# Altium schematic symbol library xmos_common.SchLib: 40 symbols
Pins are listed as number, name and electrical type; pins without a type are passive.

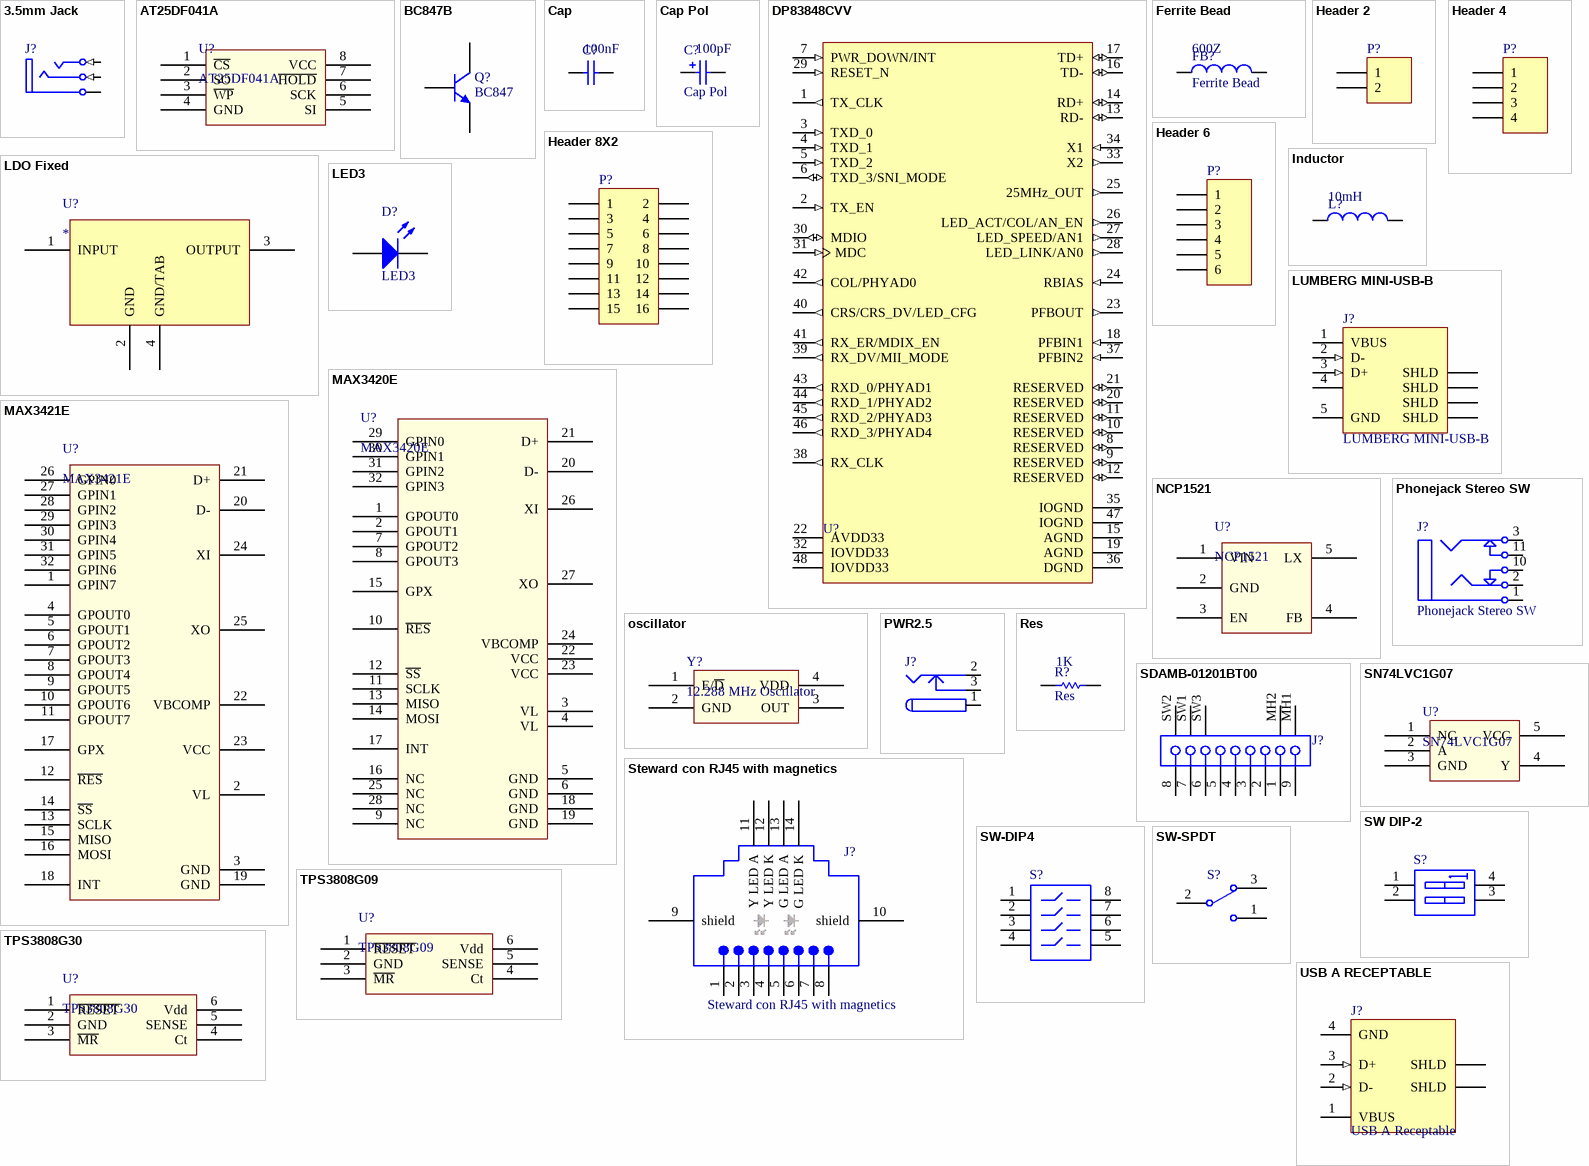
[diagram p0: symbols 3.5mm Jack to USB A RECEPTABLE]

## 3.5mm Jack
designator J?
Stereo Jack 2.5mm, Right Angle, Surface Mount, 9mm Wide; 3-Position; Non-thread; PCB_Layout: Complies with manufacturer's recommendation.; Published: 21-Sep-2007; DatasheetVersion: Jul-2005; PackageVersion: Jul-2005; PackageReference: STX2550-3S; Publisher: Altium Limited; PackageDescription: Audio Jack 2.5mm, SM, 3 Position, Right Angle, Body 12 x 9 x 4 mm (LxWxH); ComponentLink1Description: Manufacturer Link; ComponentLink1URL: http://www.kycon.com/; ComponentLink2Description: Datasheet; ComponentLink2URL: http://www.kycon.com/Pub_Eng_Draw/STX-2550-3N.pdf
footprint 3.5mm Audio Jack 1
pins: 1 S (power) "Sleeve (Ground)", 2 T (in) "Tip/Left Channel/(+)", 3 R (in) "Ring/Right Channel/(-)"

## AT25DF041A
designator U?
4Mbit SPI Flash
footprint SOIC150-8_M (8-Pin Plastic Narrow Body Small Outline Integrated Circuit 1.27 mm Pitch, IPC Low Density)
pins: 1 ~{CS}, 2 SO, 3 ~{WP}, 4 GND, 5 SI, 6 SCK, 7 ~{HOLD}, 8 VCC

## BC847B
designator Q?, comment BC847
NPN General-purpose Transistor; Published: 17-Sep-2003; LatestRevisionDate: 12-Dec-2006; LatestRevisionNote: IPC-7351 Footprint Added.; DatasheetVersion: 4-Feb-2002; PackageVersion: May-1999; PackageReference: SOT23; Publisher: Altium Limited; PackageDescription: 3-Pin SOT-23 Package 0.95 mm Pitch, 2.3 mm Lead Span; ComponentLink1Description: Manufacturer Link; ComponentLink1URL: http://www.semiconductors.philips.com/; ComponentLink2Description: Datasheet; ComponentLink2URL: http://www.semiconductors.philips.com/acrobat/datasheets/BC846_BC847_BC848_5.pdf
footprint SOT23-3_M (SOT23, 3-Leads, Body 2.9x1.3mm, Pitch 0.95mm, Lead Span 2.3mm, IPC Low Density)
pins: 1 B, 2 E, 3 C

## Cap
designator C?  value 100nF  (hidden comment: Cap)
Capacitor; Published: 8-Jun-2000; LatestRevisionDate: 17-Jul-2002; LatestRevisionNote: Re-released for DXP Platform.; PackageReference: RAD-0.3; Publisher: Altium Limited
footprint 1608[0603]_CAP (Chip Resistor / Capacitor; Body 1.6 x 0.8 mm (LxW typ) Handsoldering optimized)
footprint 2012[0805]_CAP (Chip Resistor / Capacitor; Body 2.0 x 1.3 mm (LxW typ) Handsoldering optimized)
footprint 1005[0402]_CAP (Chip Capacitor, Body 1.0x0.5mm, IPC Medium Density)
pins: 1, 2

## Cap Pol
designator C?  value 100pF
Polarized Capacitor (Surface Mount); Published: 8-Jun-2000; LatestRevisionDate: 29-May-2009; LatestRevisionNote: IPC-7351 Footprint Added.; PackageReference: C0805; Publisher: Altium Limited; PackageDescription: Chip Capacitor
footprint PANASONIC_CAP_B (Panasonic SMD Capacitor Size B, Low Density)
footprint PANASONIC_CAP_D (Panasonic SMD Capacitor Size D, Low Density)
pins: 1, 2
1 alternate drawing of the same symbol

## DP83848CVV
designator U?
PHYTER® Commercial Temperature Single Port 10/100 Mb/s Ethernet Physical Layer Transceiver, 48-pin LQFP; PartNumber: DP83848CVV; Manufacturer: National Semiconductor; PackageTopMarking: NSUZXYTT*DP83848VV*VBC; PowerWise: N; CompType: Interface IC; Published: 4-Dec-2008; DatasheetVersion: May-2008; PackageVersion: revE, May-2007; PackageReference: VBH48A; Publisher: Altium Limited; PackageDescription: LQFP, 7 x 7 x 1.4mm, 48 Lead, 0.5mm Pitch; Supplier 1: Farnell; Supplier Part Number 1: 1286816; Supplier 2: Farnell; Supplier Part Number 2: 1528379; RoHS: Y; PinCount: 48; ComponentLink1Description: DP83848C Datasheet; ComponentLink1URL: http://www.national.com/ds/DP/DP83848C.pdf; ComponentLink2Description: DP83848C Web Page; ComponentLink2URL: http://www.national.com/pf/DP/DP83848C.html; ComponentLink3Description: VBH48A Package Page; ComponentLink3URL: http://www.national.com/packaging/folders/vbh48a.html
footprint TSQFP50P900X900-48M (Thin QFP, 48-Leads, Body 7x7mm, Pitch 0.5mm, IPC Low Density)
pins: 1 TX_CLK (out), 2 TX_EN (in), 3 TXD_0 (in), 4 TXD_1 (in), 5 TXD_2 (in), 6 TXD_3/SNI_MODE (io), 7 PWR_DOWN/INT (in), 8 RESERVED (io), 9 RESERVED (io), 10 RESERVED (io), 11 RESERVED (io), 12 RESERVED (io), 13 RD- (io), 14 RD+ (io), 15 AGND (power), 16 TD- (io), 17 TD+ (io), 18 PFBIN1 (in), 19 AGND (power), 20 RESERVED (io), 21 RESERVED (io), 22 AVDD33 (power), 23 PFBOUT (out), 24 RBIAS (in), 25 25MHz_OUT (out), 26 LED_ACT/COL/AN_EN (out), 27 LED_SPEED/AN1 (out), 28 LED_LINK/AN0 (out), 29 RESET_N (in), 30 MDIO (io), 31 MDC (in), 32 IOVDD33 (power), 33 X2 (out), 34 X1 (in), 35 IOGND (power), 36 DGND (power), 37 PFBIN2 (in), 38 RX_CLK (out), 39 RX_DV/MII_MODE (out), 40 CRS/CRS_DV/LED_CFG (out), 41 RX_ER/MDIX_EN (out), 42 COL/PHYAD0 (out), 43 RXD_0/PHYAD1 (out), 44 RXD_1/PHYAD2 (out), 45 RXD_2/PHYAD3 (out), 46 RXD_3/PHYAD4 (out), 47 IOGND (power), 48 IOVDD33 (power)

## Ferrite Bead
designator FB?  value 600Z
Code_IEC: 1005; Published: 8-Jun-2000; LatestRevisionDate: 29-May-2009; LatestRevisionNote: IPC-7351 Footprint Added.; PackageReference: 0402-A; Publisher: Altium Limited; PackageDescription: Chip Inductor; Code_JEITA: 0402
footprint 1608[0603]_FB (Chip Resistor / Capacitor; Body 1.6 x 0.8 mm (LxW typ) Handsoldering optimized)
footprint 1005[0402]_CAP (Chip Capacitor, Body 1.0x0.5mm, IPC Medium Density)
pins: 1, 2

## Header 2
designator P?
Header, 2-Pin; LatestRevisionDate: 17-Jul-2002; LatestRevisionNote: Re-released for DXP Platform.; Publisher: Altium Limited
footprint HDR1X2 (Connector; Header; 2 Position)
pins: 1, 2

## Header 4
designator P?
Header, 4-Pin; LatestRevisionDate: 17-Jul-2002; LatestRevisionNote: Re-released for DXP Platform.; Publisher: Altium Limited
footprint HDR1X4 (Connector; Header; 4 Position)
pins: 1, 2, 3, 4

## Header 6
designator P?
Header, 6-Pin; LatestRevisionDate: 17-Jul-2002; LatestRevisionNote: Re-released for DXP Platform.; Publisher: Altium Limited
footprint HDR1X6 (Connector; Header; 6 Position)
pins: 1, 2, 3, 4, 5, 6

## Header 8X2
designator P?
Header, 8-Pin, Dual row; LatestRevisionDate: 17-Jul-2002; LatestRevisionNote: Re-released for DXP Platform.; Publisher: Altium Limited
footprint HDR2X8 (Connector; Header; 8x2 Position)
pins: 1, 2, 3, 4, 5, 6, 7, 8, 9, 10, 11, 12, 13, 14, 15, 16

## Inductor
designator L?  value 10mH
Inductor; Code_IEC: 1005; Published: 8-Jun-2000; LatestRevisionDate: 29-May-2009; LatestRevisionNote: IPC-7351 Footprint Added.; PackageReference: 0402-A; Publisher: Altium Limited; PackageDescription: Chip Inductor; Code_JEITA: 0402
footprint MURATA_LQH44P (4x4mm Inductor)
footprint INDC3225N (Chip Inductor, Body 3.2x2.5mm, IPC Medium Density)
footprint BOURNS_SRR4011 (5x5mm Inductor)
footprint BOURNS_SRR3011 (4x4mm Inductor)
pins: 1, 2

## LDO Fixed
designator U?
LDO Fixed
footprint SOT223-4N (SOT223, 4-Leads, Body 6.5x3.5mm, Pitch 2.3mm, Lead Span 7mm, IPC Medium Density)
pins: 1 INPUT, 2 GND, 3 OUTPUT, 4 GND/TAB

## LED3
designator D?
SMD LED 0805; Published: 8-Jun-2000; LatestRevisionDate: 17-Dec-2003; LatestRevisionNote: PCB Footprint replaced.; DatasheetVersion: 16-Apr-2002; PackageVersion: 16-Apr-2002; PackageReference: 3.5X2.8X1.9; Publisher: Altium Limited
footprint 2012[0805]_LED (Kingbright KPHCM-2012SGC-T)
footprint 3216[1206]_LED (AVAGO TECHNOLOGIES HSME-C150)
pins: 1 A, 2 K

## LUMBERG MINI-USB-B
designator J?
USB 2.0, Right Angle, SMT, A Type, Receptacle, 5 Position, Black; ContactMaterial: Phosphor Bronze; ContactPlating: Gold (30) over Nickel; PCB_Layout: Complies with manufacturer's recommendation.; DrillSize: Corresponds to nominal value.; PanelGround: Without; Published: 15-Jul-2004; DatasheetDocument: 15-Nov-2002; PackageDocument: 15-Nov-2002; PackageReference: 440478; Publisher: Altium Limited; HousingMaterial: Thermoplastic; ComponentLink1Description: Manufacturer Link; ComponentLink1URL: http://www.tycoelectronics.com/; ComponentLink2Description: Packaging Specification; ComponentLink2URL: http://ecommas.tycoelectronics.com/commerce/DocumentDelivery/DDEController?Action=showdoc&DocId=Customer+Drawing%7F440478%7FB%7Fpdf%7FEnglish%7FC_440478_B.pdf
footprint LUMBERG mini USB-B (Connector; USB2.0, Type B, SM; 5 Position; Right Angle)
pins: 1 VBUS (power) "Power", 2 D- (in) "-DATA", 3 D+ (in) "+DATA", 4 (power) "Ground", 5 GND "Shield", 6 SHLD "Shield", 7 SHLD "Shield", 8 SHLD "Shield", 9 SHLD "Shield"

## MAX3420E
designator U?
USB Controller SPI Interface
footprint TQFP80P900X900-32N (Thin QFP, 32-Leads, Body 7x7mm, Pitch 0.8mm, IPC Medium Density)
pins: 1 GPOUT0, 2 GPOUT1, 3 VL, 4 VL, 5 GND, 6 GND, 7 GPOUT2, 8 GPOUT3, 9 NC, 10 ~{RES}, 11 SCLK, 12 ~{SS}, 13 MISO, 14 MOSI, 15 GPX, 16 NC, 17 INT, 18 GND, 19 GND, 20 D-, 21 D+, 22 VCC, 23 VCC, 24 VBCOMP, 25 NC, 26 XI, 27 XO, 28 NC, 29 GPIN0, 30 GPIN1, 31 GPIN2, 32 GPIN3

## MAX3421E
designator U?
USB Host Controller SPI Interface
footprint TSQFP50P700X700-32N (Thin QFP, 32-Leads, Body 5x5mm, Pitch 0.5mm, IPC Medium Density)
pins: 1 GPIN7, 2 VL, 3 GND, 4 GPOUT0, 5 GPOUT1, 6 GPOUT2, 7 GPOUT3, 8 GPOUT4, 9 GPOUT5, 10 GPOUT6, 11 GPOUT7, 12 ~{RES}, 13 SCLK, 14 ~{SS}, 15 MISO, 16 MOSI, 17 GPX, 18 INT, 19 GND, 20 D-, 21 D+, 22 VBCOMP, 23 VCC, 24 XI, 25 XO, 26 GPIN0, 27 GPIN1, 28 GPIN2, 29 GPIN3, 30 GPIN4, 31 GPIN5, 32 GPIN6

## NCP1521
designator U?
Buck Converter
footprint SOT23-5 (SOT23, 5-Leads, Body 2.9x1.6mm, Pitch 0.95mm, Lead Span 2.8mm, IPC Medium Density)
pins: 1 VIN, 2 GND, 3 EN, 4 FB, 5 LX

## oscillator
designator Y?, comment 12.288 MHz Oscillator
Crystal Oscillator
footprint OSC_32_50 (Oscillator, 3,2mm x 5mm)
pins: 1 E/~{D}, 2 GND, 3 OUT, 4 VDD

## Phonejack Stereo SW
designator J?
Switchcraft 35RAPC4BHN2; Published: 5-Jan-2004; LatestRevisionDate: 17-Dec-2003; LatestRevisionNote: PCB Footprint replaced.; DatasheetDocument: 07-Mar-2000; Publisher: Altium Limited; ComponentLink1Description: Manufacturer Link; ComponentLink1URL: http://domino.kycon.com/internet/Products.html
footprint 35RAPC2BHN2 (Switchcraft Audio Jack)
pins: 1, 2, 3, 10, 11

## PWR2.5
designator J?
Low Voltage Power Supply Connector; Published: 17-Dec-2003; DatasheetDocument: 09-May-2002; Publisher: Altium Limited; ComponentLink1Description: Manufacturer Link; ComponentLink1URL: http://domino.kycon.com/internet/Products.html
footprint KLD-0202 (DC Power Jack, 2.5mm, KLD Series, PCB Mount)
pins: 1 (power), 1A (power), 1B (power), 2 (power), 2A (power), 2B (power), 3 (power), 3A (power), 3B (power)

## Res
designator R?  value 1K
Resistor; Published: 8-Jun-2000; LatestRevisionDate: 17-Jul-2002; LatestRevisionNote: Re-released for DXP Platform.; PackageReference: AXIAL-0.3; Publisher: Altium Limited
footprint 1608[0603]_RES (Chip Resistor / Capacitor; Body 1.6 x 0.8 mm (LxW typ) Handsoldering optimized)
footprint 2012[0805]_RES (Chip Resistor / Capacitor; Body 2.0 x 1.3 mm (LxW typ) Handsoldering optimized)
footprint 1005[0402]_RES (Chip Resistor, Body 1.1x0.5mm, IPC Medium Density)
pins: 1, 2

## SDAMB-01201BT00
designator J?
Secure Digital Card Connector, Type A without Cover; Surface Mount; 9-Position, 1u" Au Plating; PCB_Layout: Complies with manufacturer's recommendation.; Note: SD and MMC full compatible; Published: 21-Sep-2007; DatasheetVersion: rev.I, 2006; PackageVersion: 2006; PackageReference: SDAMB-012; Publisher: Altium Limited; PackageDescription: SD Card without Cover, SM, 9 Position, Right Angle, Body 23.3 x 27.4 x 3.4 mm (LxWxH); ComponentLink1Description: Manufacturer Link; ComponentLink1URL: http://www.kingfont.com/; ComponentLink2Description: Datasheet; ComponentLink2URL: http://php2.twinner.com.tw/files/kingfont/SDAMB-012XXBXXX-1C.pdf
footprint SDCARD-SDAMB-012 (Connector; SD Card Type A, SM, 9 Position, Right Angle, Pitch 2.5 mm, Body 23.3 x 27.4 x 3.4 mm (LxWxH))
pins: 1 "CD/DAT3", 2 "CMD/D1", 3 "VSS1", 4 "VDD", 5 "CLK/SCLK", 6 "VSS2", 7 "DAT0", 8 "DAT1", 9 "DAT3", MH1 "Tab", MH2 "Tab", SW1, SW2 "Write Protect", SW3 "Card Detect Indication"

## SN74LVC1G07
designator U?
Buffer (open drain output); Manufacturer: TEXAS INSTRUMENTS; Vendor: Farnell; ProductCode: SN74LVC1G07DBV; VendorCode: 1102969; Price: 0,47
footprint SOT23-5 (SOT23, 5-Leads, Body 2.9x1.6mm, Pitch 0.95mm, Lead Span 2.8mm, IPC Medium Density)
pins: 1 NC, 2 A, 3 GND, 4 Y, 5 VCC

## Steward con RJ45 with magnetics
designator J?
Right Angle,RJ45-Keyed, Flange Mount PCB Jack; Ports: 1; Positions/Loaded: Port1 - 8 Keyed/8; PerformanceCategory: 3; PCB_Mounting: Thru-Hole; ComponentAvailability: Obsolete; DrillSize: Nominal, Rounded to nearest 0.05mm; PCB_Layout: Complies with Manufacturer's Recommendation.; Published: 25-Jun-2002; DatasheetDocument: 18-Dec-2001; PackageDocument: 18-Dec-2001; PackageReference: 15-43-6233; Publisher: Altium Limited; ComponentLink1Description: Manufacturer Link; ComponentLink1URL: http://www.molex.com/; ComponentLink2Description: Datasheet; ComponentLink2URL: http://www.molex.com/cmc_upload/common_files/1212003_catalogmx41314.pdf; ComponentLink3Description: Iges Model; ComponentLink3URL: http://www.molex.com/pdm_docs/igs/15-43-6233_igs.zip
footprint Steward Con RJ45 (Connector; PCB Jack, Thru-Hole; 1-Port; Unshielded without Lightpipes; Right Angle)
pins: 1, 2, 3, 4, 5, 6, 7, 8, 9 shield, 10 shield, 11 Y LED A, 12 Y LED K, 13 G LED A, 14 G LED K

## SW DIP-2
designator S?
DIP Switch, 2 Position, SPST; Published: 24-Mar-1999; LatestRevisionDate: 17-Jul-2002; LatestRevisionNote: Re-released for DXP Platform.; PackageReference: DIP-4; Publisher: Altium Limited
footprint DIP-4 (DIP; 4 Leads; Row Spacing 7.62 mm; Pitch 2.54 mm)
simulation model dpsw2 (Spice Subcircuit)
pins: 1 A1, 2 A2, 3 B2, 4 B1

## SW-DIP4
designator S?
DIP Switch; Published: 24-Mar-1999; LatestRevisionDate: 17-Jul-2002; LatestRevisionNote: Re-released for DXP Platform.; PackageReference: DIP-8; Publisher: Altium Limited
footprint DIPSW4_SMD
pins: 1, 2, 3, 4, 5, 6, 7, 8

## SW-SPDT
designator S?
SPDT Subminiature Toggle Switch, Right Angle Mounting, Vertical Actuation; Published: 24-Mar-1999; LatestRevisionDate: 17-Dec-2003; LatestRevisionNote: Schematic revised, PCB Footprint replaced.; DatasheetVersion: 05-Dec-2000; PackageReference: TL36WW15050; Publisher: Altium Limited; PackageDescription: Switch; 4 Leads; ComponentLink1Description: Manufacturer Link; ComponentLink1URL: http://www.apem.com
footprint SIP-3
pins: 1, 2, 3

## TPS3808G09
designator U?
Power on Reset controller 0.9V
footprint SOT23-6 (SOT-23/SC-74A; 6 Leads; Body 3 x 3 mm, inc. leads (LxW max))
pins: 1 ~{RESET}, 2 GND, 3 ~{MR}, 4 Ct, 5 SENSE, 6 Vdd

## TPS3808G30
designator U?
Power on Reset controller 3.0V
footprint SOT23-6 (SOT-23/SC-74A; 6 Leads; Body 3 x 3 mm, inc. leads (LxW max))
pins: 1 ~{RESET}, 2 GND, 3 ~{MR}, 4 Ct, 5 SENSE, 6 Vdd

## USB A RECEPTABLE
designator J?, comment USB A Receptable
USB 2.0, Right Angle, SMT, A Type, Receptacle, 5 Position, Black; ContactMaterial: Phosphor Bronze; ContactPlating: Gold (30) over Nickel; PCB_Layout: Complies with manufacturer's recommendation.; DrillSize: Corresponds to nominal value.; PanelGround: Without; Published: 15-Jul-2004; DatasheetDocument: 15-Nov-2002; PackageDocument: 15-Nov-2002; PackageReference: 440478; Publisher: Altium Limited; HousingMaterial: Thermoplastic; ComponentLink1Description: Manufacturer Link; ComponentLink1URL: http://www.tycoelectronics.com/; ComponentLink2Description: Packaging Specification; ComponentLink2URL: http://ecommas.tycoelectronics.com/commerce/DocumentDelivery/DDEController?Action=showdoc&DocId=Customer+Drawing%7F440478%7FB%7Fpdf%7FEnglish%7FC_440478_B.pdf
footprint USB2.5-2H4B (Connector; USB1.1, Type A, Thru-Hole; 4 Position; Right Angle)
pins: 1 VBUS (power) "Power", 2 D- (in) "-DATA", 3 D+ (in) "+DATA", 4 GND (power) "Ground", 5 SHLD "Shield", 6 SHLD "Shield"

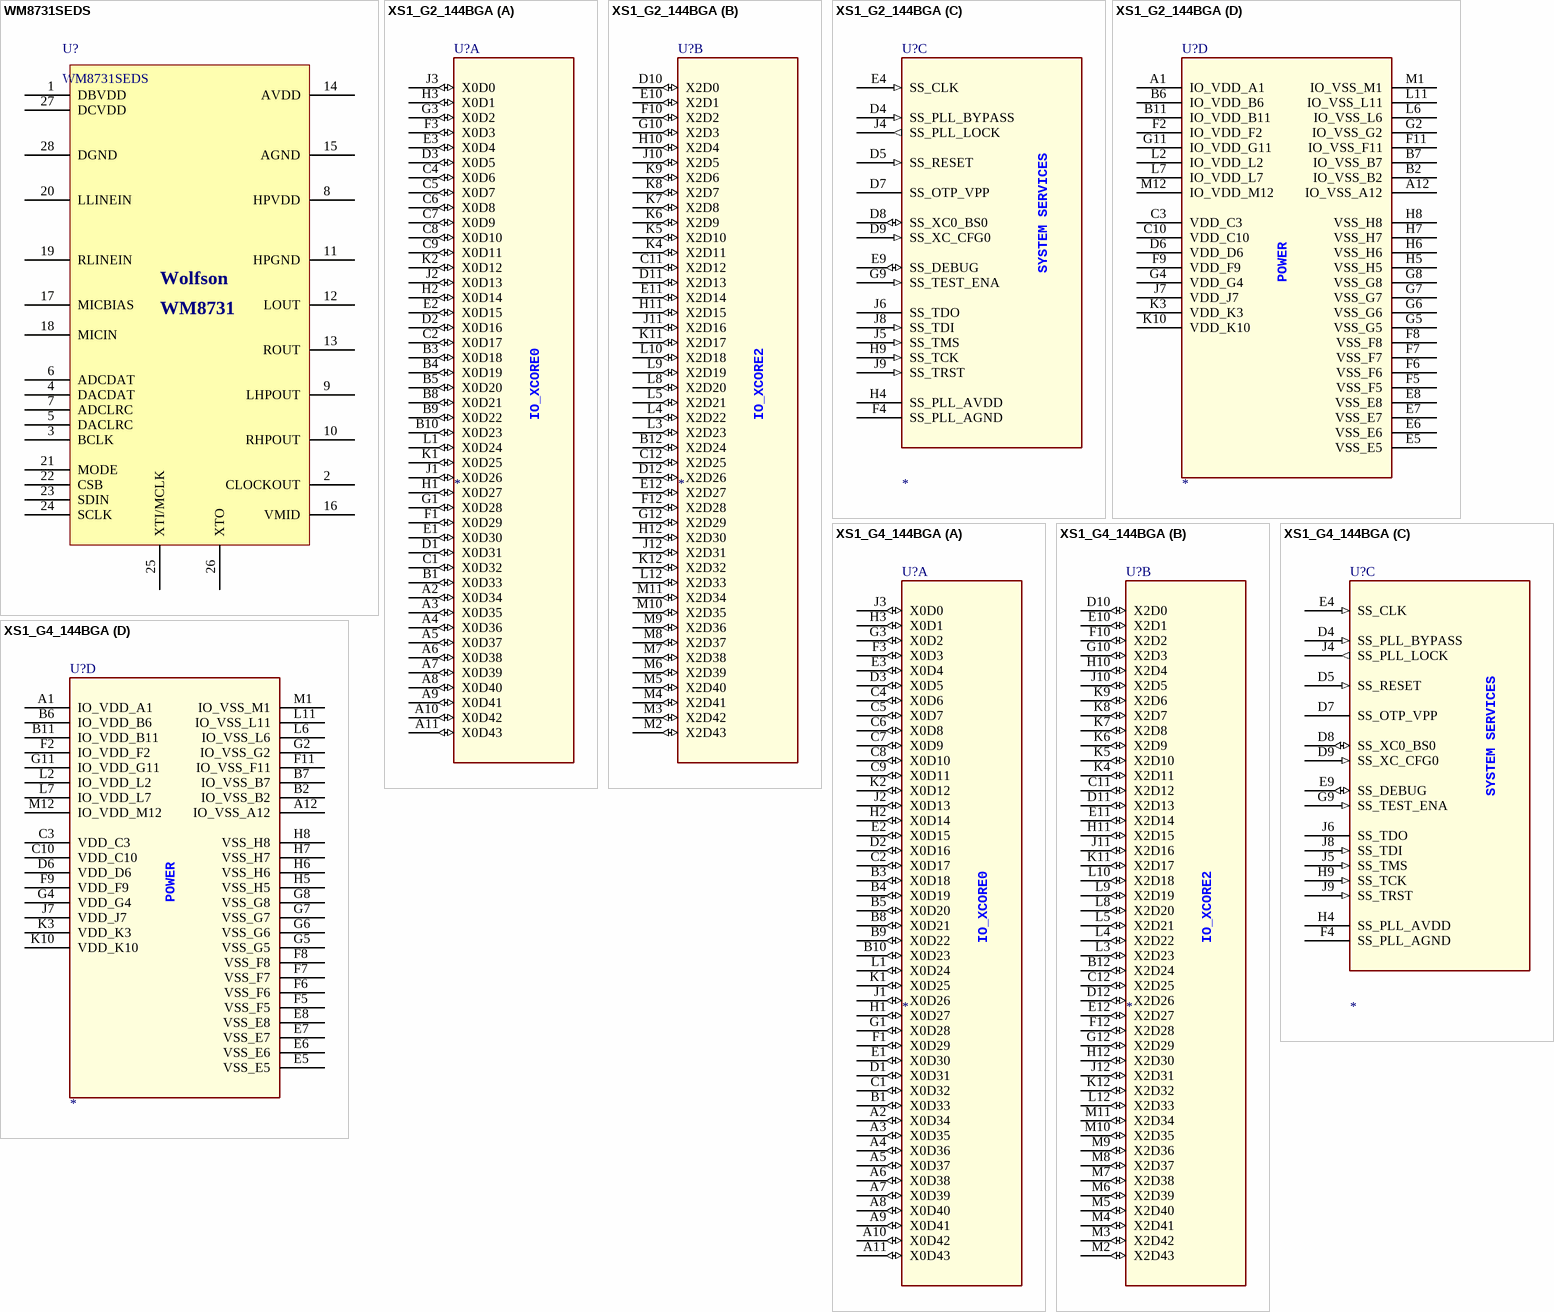
[diagram p1: symbols WM8731SEDS to XS1_G4_144BGA]

## WM8731SEDS
designator U?
Wolfson WM8731 Audio Codec
footprint SOP65P760-28M (SOP, 28-Leads, Body 10.2x5.3mm, Pitch 0.65mm, IPC Low Density)
pins: 1 DBVDD, 2 CLOCKOUT, 3 BCLK, 4 DACDAT, 5 DACLRC, 6 ADCDAT, 7 ADCLRC, 8 HPVDD, 9 LHPOUT, 10 RHPOUT, 11 HPGND, 12 LOUT, 13 ROUT, 14 AVDD, 15 AGND, 16 VMID, 17 MICBIAS, 18 MICIN, 19 RLINEIN, 20 LLINEIN, 21 MODE, 22 CSB, 23 SDIN, 24 SCLK, 25 XTI/MCLK, 26 XTO, 27 DCVDD, 28 DGND
text: Wolfson; WM8731

## XS1_G2_144BGA
designator U?
footprint XMOS_BGA144C80P12X12_1100X1100X170
part A pins: A2 X0D34 (io), A3 X0D35 (io), A4 X0D36 (io), A5 X0D37 (io), A6 X0D38 (io), A7 X0D39 (io), A8 X0D40 (io), A9 X0D41 (io), A10 X0D42 (io), A11 X0D43 (io), B1 X0D33 (io), B3 X0D18 (io), B4 X0D19 (io), B5 X0D20 (io), B8 X0D21 (io), B9 X0D22 (io), B10 X0D23 (io), C1 X0D32 (io), C2 X0D17 (io), C4 X0D6 (io), C5 X0D7 (io), C6 X0D8 (io), C7 X0D9 (io), C8 X0D10 (io), C9 X0D11 (io), D1 X0D31 (io), D2 X0D16 (io), D3 X0D5 (io), E1 X0D30 (io), E2 X0D15 (io), E3 X0D4 (io), F1 X0D29 (io), F3 X0D3 (io), G1 X0D28 (io), G3 X0D2 (io), H1 X0D27 (io), H2 X0D14 (io), H3 X0D1 (io), J1 X0D26 (io), J2 X0D13 (io), J3 X0D0 (io), K1 X0D25 (io), K2 X0D12 (io), L1 X0D24 (io)
part B pins: B12 X2D24 (io), C11 X2D12 (io), C12 X2D25 (io), D10 X2D0 (io), D11 X2D13 (io), D12 X2D26 (io), E10 X2D1 (io), E11 X2D14 (io), E12 X2D27 (io), F10 X2D2 (io), F12 X2D28 (io), G10 X2D3 (io), G12 X2D29 (io), H10 X2D4 (io), H11 X2D15 (io), H12 X2D30 (io), J10 X2D5 (io), J11 X2D16 (io), J12 X2D31 (io), K4 X2D11 (io), K5 X2D10 (io), K6 X2D9 (io), K7 X2D8 (io), K8 X2D7 (io), K9 X2D6 (io), K11 X2D17 (io), K12 X2D32 (io), L3 X2D23 (io), L4 X2D22 (io), L5 X2D21 (io), L8 X2D20 (io), L9 X2D19 (io), L10 X2D18 (io), L12 X2D33 (io), M2 X2D43 (io), M3 X2D42 (io), M4 X2D41 (io), M5 X2D40 (io), M6 X2D39 (io), M7 X2D38 (io), M8 X2D37 (io), M9 X2D36 (io), M10 X2D35 (io), M11 X2D34 (io)
part C pins: D4 SS_PLL_BYPASS (in), D5 SS_RESET (in), D7 SS_OTP_VPP, D8 SS_XC0_BS0 (io), D9 SS_XC_CFG0 (in), E4 SS_CLK (in), E9 SS_DEBUG (io), F4 SS_PLL_AGND, G9 SS_TEST_ENA (in), H4 SS_PLL_AVDD, H9 SS_TCK (in), J4 SS_PLL_LOCK (out), J5 SS_TMS (in), J6 SS_TDO (hiz), J8 SS_TDI (in), J9 SS_TRST (in)
part D pins: A1 IO_VDD_A1, A12 IO_VSS_A12, B2 IO_VSS_B2, B6 IO_VDD_B6, B7 IO_VSS_B7, B11 IO_VDD_B11, C3 VDD_C3, C10 VDD_C10, D6 VDD_D6, E5 VSS_E5, E6 VSS_E6, E7 VSS_E7, E8 VSS_E8, F2 IO_VDD_F2, F5 VSS_F5, F6 VSS_F6, F7 VSS_F7, F8 VSS_F8, F9 VDD_F9, F11 IO_VSS_F11, G2 IO_VSS_G2, G4 VDD_G4, G5 VSS_G5, G6 VSS_G6, G7 VSS_G7, G8 VSS_G8, G11 IO_VDD_G11, H5 VSS_H5, H6 VSS_H6, H7 VSS_H7, H8 VSS_H8, J7 VDD_J7, K3 VDD_K3, K10 VDD_K10, L2 IO_VDD_L2, L6 IO_VSS_L6, L7 IO_VDD_L7, L11 IO_VSS_L11, M1 IO_VSS_M1, M12 IO_VDD_M12
part A text: IO_XCORE0
part B text: IO_XCORE2
part C text: SYSTEM SERVICES
part D text: POWER

## XS1_G4_144BGA
designator U?
footprint XMOS_BGA144C80P12X12_1100X1100X170
part A pins: A2 X0D34 (io), A3 X0D35 (io), A4 X0D36 (io), A5 X0D37 (io), A6 X0D38 (io), A7 X0D39 (io), A8 X0D40 (io), A9 X0D41 (io), A10 X0D42 (io), A11 X0D43 (io), B1 X0D33 (io), B3 X0D18 (io), B4 X0D19 (io), B5 X0D20 (io), B8 X0D21 (io), B9 X0D22 (io), B10 X0D23 (io), C1 X0D32 (io), C2 X0D17 (io), C4 X0D6 (io), C5 X0D7 (io), C6 X0D8 (io), C7 X0D9 (io), C8 X0D10 (io), C9 X0D11 (io), D1 X0D31 (io), D2 X0D16 (io), D3 X0D5 (io), E1 X0D30 (io), E2 X0D15 (io), E3 X0D4 (io), F1 X0D29 (io), F3 X0D3 (io), G1 X0D28 (io), G3 X0D2 (io), H1 X0D27 (io), H2 X0D14 (io), H3 X0D1 (io), J1 X0D26 (io), J2 X0D13 (io), J3 X0D0 (io), K1 X0D25 (io), K2 X0D12 (io), L1 X0D24 (io)
part B pins: B12 X2D24 (io), C11 X2D12 (io), C12 X2D25 (io), D10 X2D0 (io), D11 X2D13 (io), D12 X2D26 (io), E10 X2D1 (io), E11 X2D14 (io), E12 X2D27 (io), F10 X2D2 (io), F12 X2D28 (io), G10 X2D3 (io), G12 X2D29 (io), H10 X2D4 (io), H11 X2D15 (io), H12 X2D30 (io), J10 X2D5 (io), J11 X2D16 (io), J12 X2D31 (io), K4 X2D11 (io), K5 X2D10 (io), K6 X2D9 (io), K7 X2D8 (io), K8 X2D7 (io), K9 X2D6 (io), K11 X2D17 (io), K12 X2D32 (io), L3 X2D23 (io), L4 X2D22 (io), L5 X2D21 (io), L8 X2D20 (io), L9 X2D19 (io), L10 X2D18 (io), L12 X2D33 (io), M2 X2D43 (io), M3 X2D42 (io), M4 X2D41 (io), M5 X2D40 (io), M6 X2D39 (io), M7 X2D38 (io), M8 X2D37 (io), M9 X2D36 (io), M10 X2D35 (io), M11 X2D34 (io)
part C pins: D4 SS_PLL_BYPASS (in), D5 SS_RESET (in), D7 SS_OTP_VPP, D8 SS_XC0_BS0 (io), D9 SS_XC_CFG0 (in), E4 SS_CLK (in), E9 SS_DEBUG (io), F4 SS_PLL_AGND, G9 SS_TEST_ENA (in), H4 SS_PLL_AVDD, H9 SS_TCK (in), J4 SS_PLL_LOCK (out), J5 SS_TMS (in), J6 SS_TDO (hiz), J8 SS_TDI (in), J9 SS_TRST (in)
part D pins: A1 IO_VDD_A1, A12 IO_VSS_A12, B2 IO_VSS_B2, B6 IO_VDD_B6, B7 IO_VSS_B7, B11 IO_VDD_B11, C3 VDD_C3, C10 VDD_C10, D6 VDD_D6, E5 VSS_E5, E6 VSS_E6, E7 VSS_E7, E8 VSS_E8, F2 IO_VDD_F2, F5 VSS_F5, F6 VSS_F6, F7 VSS_F7, F8 VSS_F8, F9 VDD_F9, F11 IO_VSS_F11, G2 IO_VSS_G2, G4 VDD_G4, G5 VSS_G5, G6 VSS_G6, G7 VSS_G7, G8 VSS_G8, G11 IO_VDD_G11, H5 VSS_H5, H6 VSS_H6, H7 VSS_H7, H8 VSS_H8, J7 VDD_J7, K3 VDD_K3, K10 VDD_K10, L2 IO_VDD_L2, L6 IO_VSS_L6, L7 IO_VDD_L7, L11 IO_VSS_L11, M1 IO_VSS_M1, M12 IO_VDD_M12
part A text: IO_XCORE0
part B text: IO_XCORE2
part C text: SYSTEM SERVICES
part D text: POWER

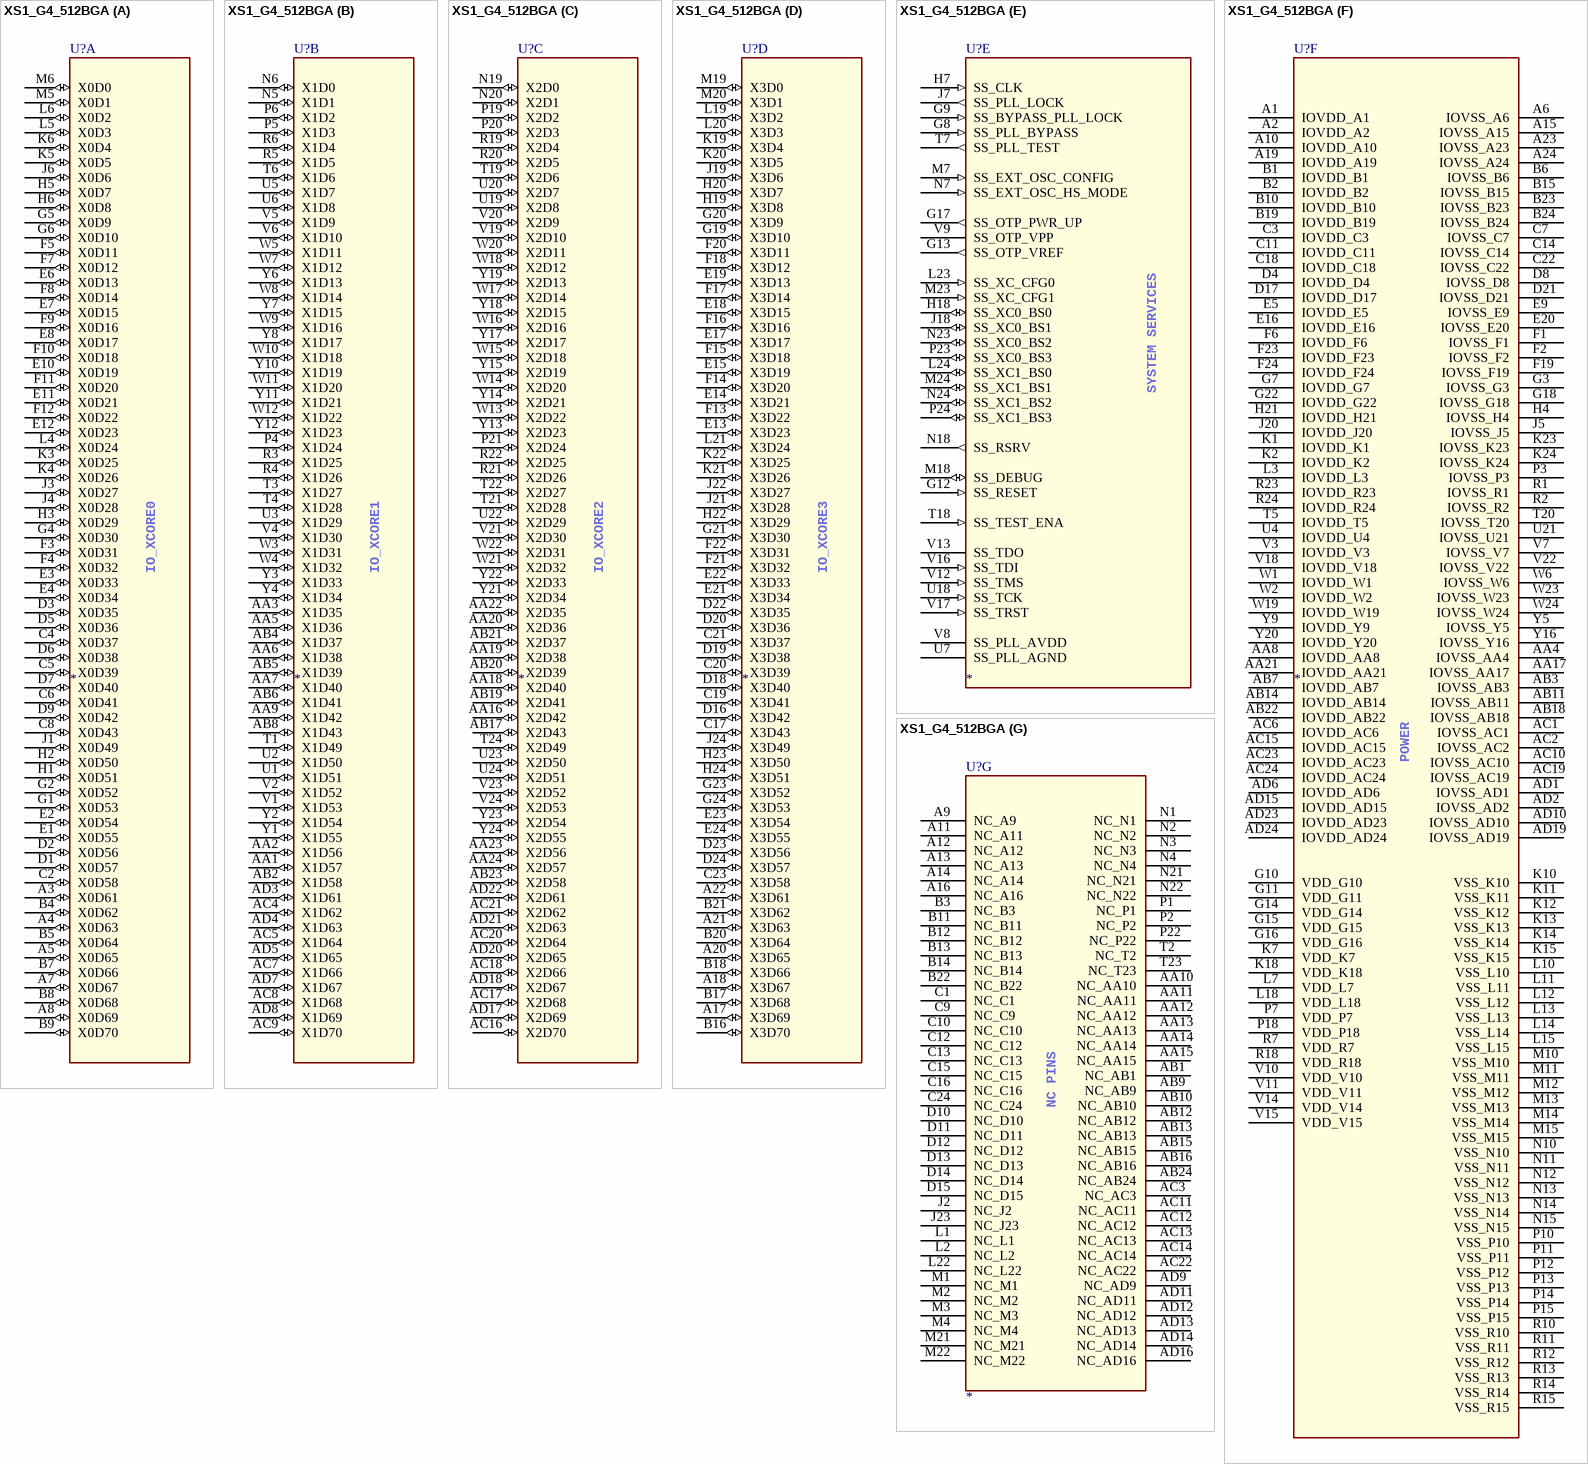
[diagram p2: symbol XS1_G4_512BGA]

## XS1_G4_512BGA
designator U?
footprint XMOS_BGA512C80P24X24_2000X2000X160
part A pins: A3 X0D61 (io), A4 X0D63 (io), A5 X0D65 (io), A7 X0D67 (io), A8 X0D69 (io), B4 X0D62 (io), B5 X0D64 (io), B7 X0D66 (io), B8 X0D68 (io), B9 X0D70 (io), C2 X0D58 (io), C4 X0D37 (io), C5 X0D39 (io), C6 X0D41 (io), C8 X0D43 (io), D1 X0D57 (io), D2 X0D56 (io), D3 X0D35 (io), D5 X0D36 (io), D6 X0D38 (io), D7 X0D40 (io), D9 X0D42 (io), E1 X0D55 (io), E2 X0D54 (io), E3 X0D33 (io), E4 X0D34 (io), E6 X0D13 (io), E7 X0D15 (io), E8 X0D17 (io), E10 X0D19 (io), E11 X0D21 (io), E12 X0D23 (io), F3 X0D31 (io), F4 X0D32 (io), F5 X0D11 (io), F7 X0D12 (io), F8 X0D14 (io), F9 X0D16 (io), F10 X0D18 (io), F11 X0D20 (io), F12 X0D22 (io), G1 X0D53 (io), G2 X0D52 (io), G4 X0D30 (io), G5 X0D9 (io), G6 X0D10 (io), H1 X0D51 (io), H2 X0D50 (io), H3 X0D29 (io), H5 X0D7 (io), H6 X0D8 (io), J1 X0D49 (io), J3 X0D27 (io), J4 X0D28 (io), J6 X0D6 (io), K3 X0D25 (io), K4 X0D26 (io), K5 X0D5 (io), K6 X0D4 (io), L4 X0D24 (io), L5 X0D3 (io), L6 X0D2 (io), M5 X0D1 (io), M6 X0D0 (io)
part B pins: AA1 X1D57 (io), AA2 X1D56 (io), AA3 X1D35 (io), AA5 X1D36 (io), AA6 X1D38 (io), AA7 X1D40 (io), AA9 X1D42 (io), AB2 X1D58 (io), AB4 X1D37 (io), AB5 X1D39 (io), AB6 X1D41 (io), AB8 X1D43 (io), AC4 X1D62 (io), AC5 X1D64 (io), AC7 X1D66 (io), AC8 X1D68 (io), AC9 X1D70 (io), AD3 X1D61 (io), AD4 X1D63 (io), AD5 X1D65 (io), AD7 X1D67 (io), AD8 X1D69 (io), N5 X1D1 (io), N6 X1D0 (io), P4 X1D24 (io), P5 X1D3 (io), P6 X1D2 (io), R3 X1D25 (io), R4 X1D26 (io), R5 X1D5 (io), R6 X1D4 (io), T1 X1D49 (io), T3 X1D27 (io), T4 X1D28 (io), T6 X1D6 (io), U1 X1D51 (io), U2 X1D50 (io), U3 X1D29 (io), U5 X1D7 (io), U6 X1D8 (io), V1 X1D53 (io), V2 X1D52 (io), V4 X1D30 (io), V5 X1D9 (io), V6 X1D10 (io), W3 X1D31 (io), W4 X1D32 (io), W5 X1D11 (io), W7 X1D12 (io), W8 X1D14 (io), W9 X1D16 (io), W10 X1D18 (io), W11 X1D20 (io), W12 X1D22 (io), Y1 X1D55 (io), Y2 X1D54 (io), Y3 X1D33 (io), Y4 X1D34 (io), Y6 X1D13 (io), Y7 X1D15 (io), Y8 X1D17 (io), Y10 X1D19 (io), Y11 X1D21 (io), Y12 X1D23 (io)
part C pins: AA16 X2D42 (io), AA18 X2D40 (io), AA19 X2D38 (io), AA20 X2D36 (io), AA22 X2D35 (io), AA23 X2D56 (io), AA24 X2D57 (io), AB17 X2D43 (io), AB19 X2D41 (io), AB20 X2D39 (io), AB21 X2D37 (io), AB23 X2D58 (io), AC16 X2D70 (io), AC17 X2D68 (io), AC18 X2D66 (io), AC20 X2D64 (io), AC21 X2D62 (io), AD17 X2D69 (io), AD18 X2D67 (io), AD20 X2D65 (io), AD21 X2D63 (io), AD22 X2D61 (io), N19 X2D0 (io), N20 X2D1 (io), P19 X2D2 (io), P20 X2D3 (io), P21 X2D24 (io), R19 X2D4 (io), R20 X2D5 (io), R21 X2D26 (io), R22 X2D25 (io), T19 X2D6 (io), T21 X2D28 (io), T22 X2D27 (io), T24 X2D49 (io), U19 X2D8 (io), U20 X2D7 (io), U22 X2D29 (io), U23 X2D50 (io), U24 X2D51 (io), V19 X2D10 (io), V20 X2D9 (io), V21 X2D30 (io), V23 X2D52 (io), V24 X2D53 (io), W13 X2D22 (io), W14 X2D20 (io), W15 X2D18 (io), W16 X2D16 (io), W17 X2D14 (io), W18 X2D12 (io), W20 X2D11 (io), W21 X2D32 (io), W22 X2D31 (io), Y13 X2D23 (io), Y14 X2D21 (io), Y15 X2D19 (io), Y17 X2D17 (io), Y18 X2D15 (io), Y19 X2D13 (io), Y21 X2D34 (io), Y22 X2D33 (io), Y23 X2D54 (io), Y24 X2D55 (io)
part D pins: A17 X3D69 (io), A18 X3D67 (io), A20 X3D65 (io), A21 X3D63 (io), A22 X3D61 (io), B16 X3D70 (io), B17 X3D68 (io), B18 X3D66 (io), B20 X3D64 (io), B21 X3D62 (io), C17 X3D43 (io), C19 X3D41 (io), C20 X3D39 (io), C21 X3D37 (io), C23 X3D58 (io), D16 X3D42 (io), D18 X3D40 (io), D19 X3D38 (io), D20 X3D36 (io), D22 X3D35 (io), D23 X3D56 (io), D24 X3D57 (io), E13 X3D23 (io), E14 X3D21 (io), E15 X3D19 (io), E17 X3D17 (io), E18 X3D15 (io), E19 X3D13 (io), E21 X3D34 (io), E22 X3D33 (io), E23 X3D54 (io), E24 X3D55 (io), F13 X3D22 (io), F14 X3D20 (io), F15 X3D18 (io), F16 X3D16 (io), F17 X3D14 (io), F18 X3D12 (io), F20 X3D11 (io), F21 X3D32 (io), F22 X3D31 (io), G19 X3D10 (io), G20 X3D9 (io), G21 X3D30 (io), G23 X3D52 (io), G24 X3D53 (io), H19 X3D8 (io), H20 X3D7 (io), H22 X3D29 (io), H23 X3D50 (io), H24 X3D51 (io), J19 X3D6 (io), J21 X3D28 (io), J22 X3D27 (io), J24 X3D49 (io), K19 X3D4 (io), K20 X3D5 (io), K21 X3D26 (io), K22 X3D25 (io), L19 X3D2 (io), L20 X3D3 (io), L21 X3D24 (io), M19 X3D0 (io), M20 X3D1 (io)
part E pins: G8 SS_PLL_BYPASS (in), G9 SS_BYPASS_PLL_LOCK (in), G12 SS_RESET (in), G13 SS_OTP_VREF (out), G17 SS_OTP_PWR_UP (out), H7 SS_CLK (in), H18 SS_XC0_BS0 (io), J7 SS_PLL_LOCK (out), J18 SS_XC0_BS1 (io), L23 SS_XC_CFG0 (in), L24 SS_XC1_BS0 (io), M7 SS_EXT_OSC_CONFIG (in), M18 SS_DEBUG (io), M23 SS_XC_CFG1 (in), M24 SS_XC1_BS1 (io), N7 SS_EXT_OSC_HS_MODE (in), N18 SS_RSRV (out), N23 SS_XC0_BS2 (io), N24 SS_XC1_BS2 (io), P23 SS_XC0_BS3 (io), P24 SS_XC1_BS3 (io), T7 SS_PLL_TEST (out), T18 SS_TEST_ENA (in), U7 SS_PLL_AGND, U18 SS_TCK (in), V8 SS_PLL_AVDD, V9 SS_OTP_VPP, V12 SS_TMS (in), V13 SS_TDO (hiz), V16 SS_TDI (in), V17 SS_TRST (in)
part F pins: A1 IOVDD_A1, A2 IOVDD_A2, A6 IOVSS_A6, A10 IOVDD_A10, A15 IOVSS_A15, A19 IOVDD_A19, A23 IOVSS_A23, A24 IOVSS_A24, AA4 IOVSS_AA4, AA8 IOVDD_AA8, AA17 IOVSS_AA17, AA21 IOVDD_AA21, AB3 IOVSS_AB3, AB7 IOVDD_AB7, AB11 IOVSS_AB11, AB14 IOVDD_AB14, AB18 IOVSS_AB18, AB22 IOVDD_AB22, AC1 IOVSS_AC1, AC2 IOVSS_AC2, AC6 IOVDD_AC6, AC10 IOVSS_AC10, AC15 IOVDD_AC15, AC19 IOVSS_AC19, AC23 IOVDD_AC23, AC24 IOVDD_AC24, AD1 IOVSS_AD1, AD2 IOVSS_AD2, AD6 IOVDD_AD6, AD10 IOVSS_AD10, AD15 IOVDD_AD15, AD19 IOVSS_AD19, AD23 IOVDD_AD23, AD24 IOVDD_AD24, B1 IOVDD_B1, B2 IOVDD_B2, B6 IOVSS_B6, B10 IOVDD_B10, B15 IOVSS_B15, B19 IOVDD_B19, B23 IOVSS_B23, B24 IOVSS_B24, C3 IOVDD_C3, C7 IOVSS_C7, C11 IOVDD_C11, C14 IOVSS_C14, C18 IOVDD_C18, C22 IOVSS_C22, D4 IOVDD_D4, D8 IOVSS_D8, D17 IOVDD_D17, D21 IOVSS_D21, E5 IOVDD_E5, E9 IOVSS_E9, E16 IOVDD_E16, E20 IOVSS_E20, F1 IOVSS_F1, F2 IOVSS_F2, F6 IOVDD_F6, F19 IOVSS_F19, F23 IOVDD_F23, F24 IOVDD_F24, G3 IOVSS_G3, G7 IOVDD_G7, G10 VDD_G10, G11 VDD_G11, G14 VDD_G14, G15 VDD_G15, G16 VDD_G16, G18 IOVSS_G18, G22 IOVDD_G22, H4 IOVSS_H4, H21 IOVDD_H21, J5 IOVSS_J5, J20 IOVDD_J20, K1 IOVDD_K1, K2 IOVDD_K2, K7 VDD_K7, K10 VSS_K10, K11 VSS_K11, K12 VSS_K12, K13 VSS_K13, K14 VSS_K14, K15 VSS_K15, K18 VDD_K18, K23 IOVSS_K23, K24 IOVSS_K24, L3 IOVDD_L3, L7 VDD_L7, L10 VSS_L10, L11 VSS_L11, L12 VSS_L12, L13 VSS_L13, L14 VSS_L14, L15 VSS_L15, L18 VDD_L18, M10 VSS_M10, M11 VSS_M11, M12 VSS_M12, M13 VSS_M13, M14 VSS_M14, M15 VSS_M15, N10 VSS_N10, N11 VSS_N11, N12 VSS_N12, N13 VSS_N13, N14 VSS_N14, N15 VSS_N15, P3 IOVSS_P3, P7 VDD_P7, P10 VSS_P10, P11 VSS_P11, P12 VSS_P12, P13 VSS_P13, P14 VSS_P14, P15 VSS_P15, P18 VDD_P18, R1 IOVSS_R1, R2 IOVSS_R2, R7 VDD_R7, R10 VSS_R10, R11 VSS_R11, R12 VSS_R12, R13 VSS_R13, R14 VSS_R14, R15 VSS_R15, R18 VDD_R18, R23 IOVDD_R23, R24 IOVDD_R24, T5 IOVDD_T5, T20 IOVSS_T20, U4 IOVDD_U4, U21 IOVSS_U21, V3 IOVDD_V3, V7 IOVSS_V7, V10 VDD_V10, V11 VDD_V11, V14 VDD_V14, V15 VDD_V15, V18 IOVDD_V18, V22 IOVSS_V22, W1 IOVDD_W1, W2 IOVDD_W2, W6 IOVSS_W6, W19 IOVDD_W19, W23 IOVSS_W23, W24 IOVSS_W24, Y5 IOVSS_Y5, Y9 IOVDD_Y9, Y16 IOVSS_Y16, Y20 IOVDD_Y20
part G pins: A9 NC_A9, A11 NC_A11, A12 NC_A12, A13 NC_A13, A14 NC_A14, A16 NC_A16, AA10 NC_AA10, AA11 NC_AA11, AA12 NC_AA12, AA13 NC_AA13, AA14 NC_AA14, AA15 NC_AA15, AB1 NC_AB1, AB9 NC_AB9, AB10 NC_AB10, AB12 NC_AB12, AB13 NC_AB13, AB15 NC_AB15, AB16 NC_AB16, AB24 NC_AB24, AC3 NC_AC3, AC11 NC_AC11, AC12 NC_AC12, AC13 NC_AC13, AC14 NC_AC14, AC22 NC_AC22, AD9 NC_AD9, AD11 NC_AD11, AD12 NC_AD12, AD13 NC_AD13, AD14 NC_AD14, AD16 NC_AD16, B3 NC_B3, B11 NC_B11, B12 NC_B12, B13 NC_B13, B14 NC_B14, B22 NC_B22, C1 NC_C1, C9 NC_C9, C10 NC_C10, C12 NC_C12, C13 NC_C13, C15 NC_C15, C16 NC_C16, C24 NC_C24, D10 NC_D10, D11 NC_D11, D12 NC_D12, D13 NC_D13, D14 NC_D14, D15 NC_D15, J2 NC_J2, J23 NC_J23, L1 NC_L1, L2 NC_L2, L22 NC_L22, M1 NC_M1, M2 NC_M2, M3 NC_M3, M4 NC_M4, M21 NC_M21, M22 NC_M22, N1 NC_N1, N2 NC_N2, N3 NC_N3, N4 NC_N4, N21 NC_N21, N22 NC_N22, P1 NC_P1, P2 NC_P2, P22 NC_P22, T2 NC_T2, T23 NC_T23
part A text: IO_XCORE0
part B text: IO_XCORE1
part C text: IO_XCORE2
part D text: IO_XCORE3
part E text: SYSTEM SERVICES
part F text: POWER
part G text: NC PINS

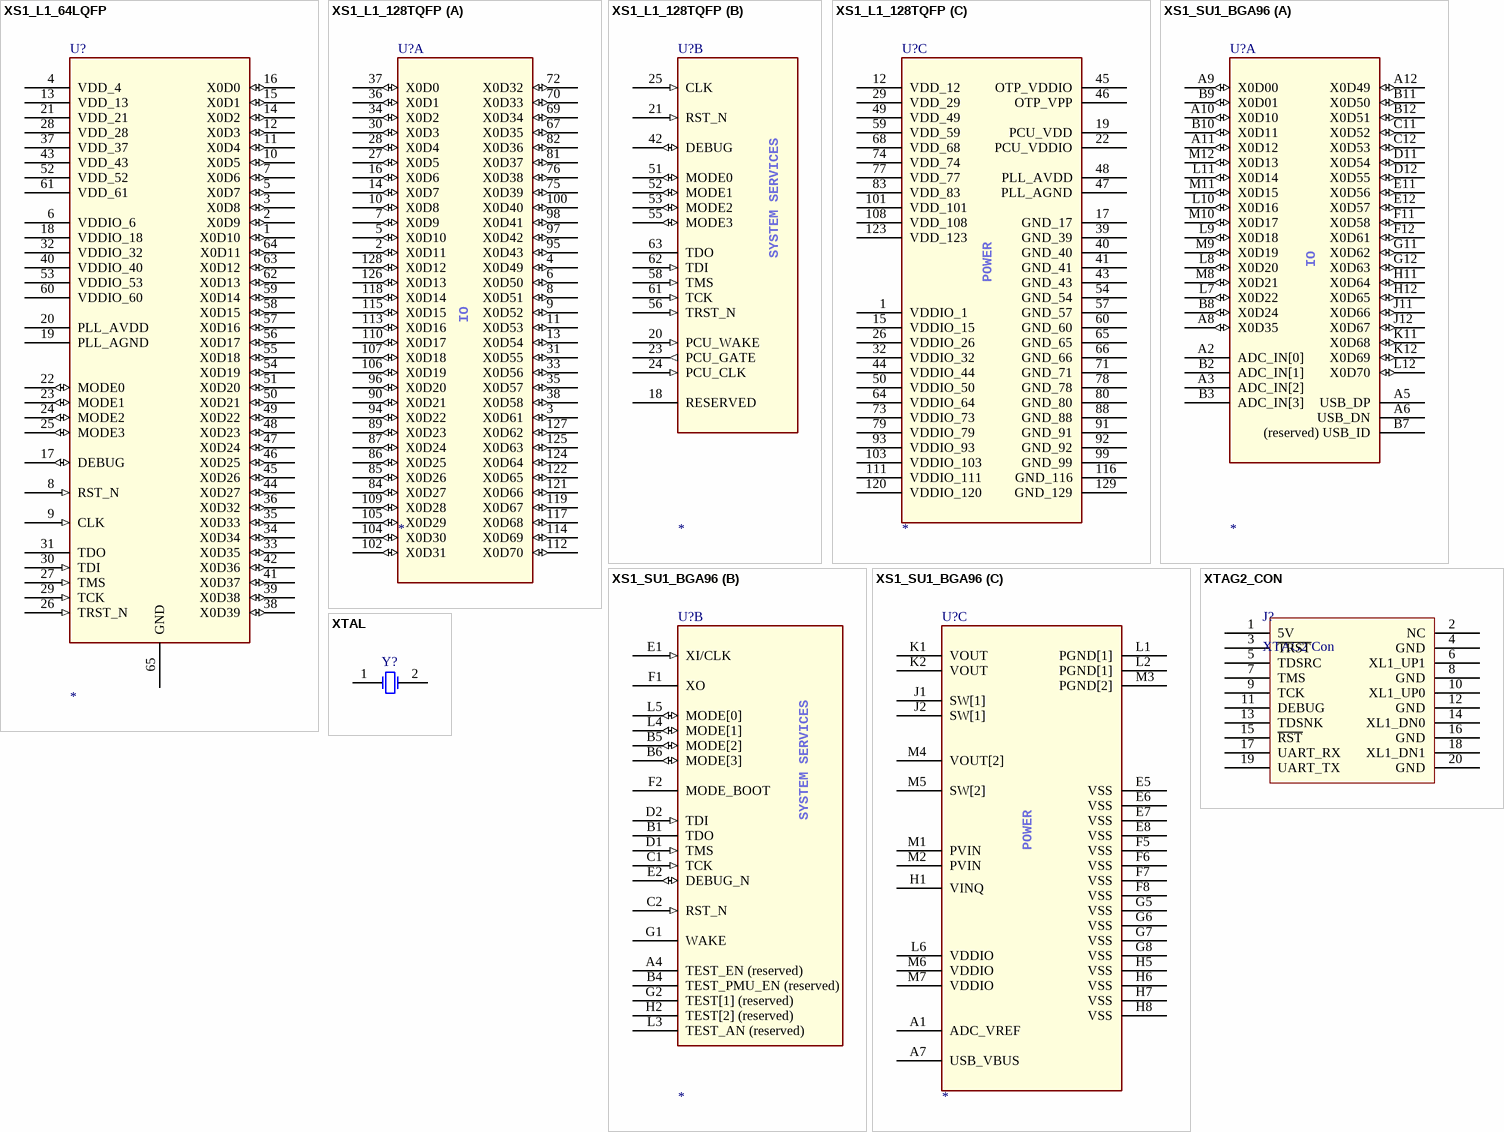
[diagram p3: symbols XS1_L1_64LQFP to XTAL]

## XS1_L1_64LQFP
designator U?
footprint XMOS_QFP50P1200X1200X160-65N
pins: 1 X0D10 (io), 2 X0D9 (io), 3 X0D8 (io), 4 VDD_4, 5 X0D7 (io), 6 VDDIO_6, 7 X0D6 (io), 8 RST_N (in), 9 CLK (in), 10 X0D5 (io), 11 X0D4 (io), 12 X0D3 (io), 13 VDD_13, 14 X0D2 (io), 15 X0D1 (io), 16 X0D0 (io), 17 DEBUG (io), 18 VDDIO_18, 19 PLL_AGND, 20 PLL_AVDD, 21 VDD_21, 22 MODE0 (io), 23 MODE1 (io), 24 MODE2 (io), 25 MODE3 (io), 26 TRST_N (in), 27 TMS (in), 28 VDD_28, 29 TCK (in), 30 TDI (in), 31 TDO (hiz), 32 VDDIO_32, 33 X0D35 (io), 34 X0D34 (io), 35 X0D33 (io), 36 X0D32 (io), 37 VDD_37, 38 X0D39 (io), 39 X0D38 (io), 40 VDDIO_40, 41 X0D37 (io), 42 X0D36 (io), 43 VDD_43, 44 X0D27 (io), 45 X0D26 (io), 46 X0D25 (io), 47 X0D24 (io), 48 X0D23 (io), 49 X0D22 (io), 50 X0D21 (io), 51 X0D20 (io), 52 VDD_52, 53 VDDIO_53, 54 X0D19 (io), 55 X0D18 (io), 56 X0D17 (io), 57 X0D16 (io), 58 X0D15 (io), 59 X0D14 (io), 60 VDDIO_60, 61 VDD_61, 62 X0D13 (io), 63 X0D12 (io), 64 X0D11 (io), 65 GND

## XS1_L1_128TQFP
designator U?
XMOS XS1-L1 Microprocessor
footprint XMOS_QFP40P1600X1600X120-129N
part A pins: 2 X0D11 (io), 3 X0D61 (io), 4 X0D49 (io), 5 X0D10 (io), 6 X0D50 (io), 7 X0D9 (io), 8 X0D51 (io), 9 X0D52 (io), 10 X0D8 (io), 11 X0D53 (io), 13 X0D54 (io), 14 X0D7 (io), 16 X0D6 (io), 27 X0D5 (io), 28 X0D4 (io), 30 X0D3 (io), 31 X0D55 (io), 33 X0D56 (io), 34 X0D2 (io), 35 X0D57 (io), 36 X0D1 (io), 37 X0D0 (io), 38 X0D58 (io), 67 X0D35 (io), 69 X0D34 (io), 70 X0D33 (io), 72 X0D32 (io), 75 X0D39 (io), 76 X0D38 (io), 81 X0D37 (io), 82 X0D36 (io), 84 X0D27 (io), 85 X0D26 (io), 86 X0D25 (io), 87 X0D24 (io), 89 X0D23 (io), 90 X0D21 (io), 94 X0D22 (io), 95 X0D43 (io), 96 X0D20 (io), 97 X0D42 (io), 98 X0D41 (io), 100 X0D40 (io), 102 X0D31 (io), 104 X0D30 (io), 105 X0D29 (io), 106 X0D19 (io), 107 X0D18 (io), 109 X0D28 (io), 110 X0D17 (io), 112 X0D70 (io), 113 X0D16 (io), 114 X0D69 (io), 115 X0D15 (io), 117 X0D68 (io), 118 X0D14 (io), 119 X0D67 (io), 121 X0D66 (io), 122 X0D65 (io), 124 X0D64 (io), 125 X0D63 (io), 126 X0D13 (io), 127 X0D62 (io), 128 X0D12 (io)
part B pins: 18 RESERVED, 20 PCU_WAKE (in), 21 RST_N (in), 23 PCU_GATE (out), 24 PCU_CLK (in), 25 CLK (in), 42 DEBUG (io), 51 MODE0 (io), 52 MODE1 (io), 53 MODE2 (io), 55 MODE3 (io), 56 TRST_N (in), 58 TMS (in), 61 TCK (in), 62 TDI (in), 63 TDO (hiz)
part C pins: 1 VDDIO_1, 12 VDD_12, 15 VDDIO_15, 17 GND_17, 19 PCU_VDD, 22 PCU_VDDIO, 26 VDDIO_26, 29 VDD_29, 32 VDDIO_32, 39 GND_39, 40 GND_40, 41 GND_41, 43 GND_43, 44 VDDIO_44, 45 OTP_VDDIO, 46 OTP_VPP, 47 PLL_AGND, 48 PLL_AVDD, 49 VDD_49, 50 VDDIO_50, 54 GND_54, 57 GND_57, 59 VDD_59, 60 GND_60, 64 VDDIO_64, 65 GND_65, 66 GND_66, 68 VDD_68, 71 GND_71, 73 VDDIO_73, 74 VDD_74, 77 VDD_77, 78 GND_78, 79 VDDIO_79, 80 GND_80, 83 VDD_83, 88 GND_88, 91 GND_91, 92 GND_92, 93 VDDIO_93, 99 GND_99, 101 VDD_101, 103 VDDIO_103, 108 VDD_108, 111 VDDIO_111, 116 GND_116, 120 VDDIO_120, 123 VDD_123, 129 GND_129
part A text: IO
part B text: SYSTEM SERVICES
part C text: POWER

## XS1_SU1_BGA96
designator U?
XMOS XS1-SU1-BGA96
footprint XMOS_XS1-SU1_BGA96_PAD30 (XMOS XS1-SU1 BGA96 with 0.3mm pads)
footprint XMOS_XS1-SU1_BGA96_PAD35 (XMOS XS1-SU1 BGA96 with 0.35mm pads)
part A pins: A2 ADC_IN[0], A3 ADC_IN[2], A5 USB_DP, A6 USB_DN, A8 X0D35 (io), A9 X0D00 (io), A10 X0D10 (io), A11 X0D12 (io), A12 X0D49 (io), B2 ADC_IN[1], B3 ADC_IN[3], B7 (reserved) USB_ID, B8 X0D24 (io), B9 X0D01 (io), B10 X0D11 (io), B11 X0D50 (io), B12 X0D51 (io), C11 X0D52 (io), C12 X0D53 (io), D11 X0D54 (io), D12 X0D55 (io), E11 X0D56 (io), E12 X0D57 (io), F11 X0D58 (io), F12 X0D61 (io), G11 X0D62 (io), G12 X0D63 (io), H11 X0D64 (io), H12 X0D65 (io), J11 X0D66 (io), J12 X0D67 (io), K11 X0D68 (io), K12 X0D69 (io), L7 X0D22 (io), L8 X0D20 (io), L9 X0D18 (io), L10 X0D16 (io), L11 X0D14 (io), L12 X0D70 (io), M8 X0D21 (io), M9 X0D19 (io), M10 X0D17 (io), M11 X0D15 (io), M12 X0D13 (io)
part B pins: A4 TEST_EN (reserved), B1 TDO (hiz), B4 TEST_PMU_EN (reserved), B5 MODE[2] (io), B6 MODE[3] (io), C1 TCK (in), C2 RST_N (in), D1 TMS (in), D2 TDI (in), E1 XI/CLK (in), E2 DEBUG_N (io), F1 XO, F2 MODE_BOOT, G1 WAKE, G2 TEST[1] (reserved), H2 TEST[2] (reserved), L3 TEST_AN (reserved), L4 MODE[1] (io), L5 MODE[0] (io)
part C pins: A1 ADC_VREF, A7 USB_VBUS, E5 VSS, E6 VSS, E7 VSS, E8 VSS, F5 VSS, F6 VSS, F7 VSS, F8 VSS, G5 VSS, G6 VSS, G7 VSS, G8 VSS, H1 VINQ, H5 VSS, H6 VSS, H7 VSS, H8 VSS, J1 SW[1], J2 SW[1], K1 VOUT, K2 VOUT, L1 PGND[1], L2 PGND[1], L6 VDDIO, M1 PVIN, M2 PVIN, M3 PGND[2], M4 VOUT[2], M5 SW[2], M6 VDDIO, M7 VDDIO
part A text: IO
part B text: SYSTEM SERVICES
part C text: POWER

## XTAG2_CON
designator J?, comment XTAG2 Con
XTAG2 Connector
footprint IDC2.54-V20D (Connector; IDC, Low Profile Male Header, Thru-Hole; 20 Position; Vertical; Pitch 2.54 mm; Body 33.02 x 9.2 x 9.45 mm (LxWxH))
pins: 1 5V, 2 NC, 3 ~{TRST}, 4 GND, 5 TDSRC, 6 XL1_UP1, 7 TMS, 8 GND, 9 TCK, 10 XL1_UP0, 11 DEBUG, 12 GND, 13 TDSNK, 14 XL1_DN0, 15 ~{RST}, 16 GND, 17 UART_RX, 18 XL1_DN1, 19 UART_TX, 20 GND

## XTAL
designator Y?
Crystal Oscillator; Published: 8-Jun-2000; LatestRevisionDate: 17-Jul-2002; LatestRevisionNote: Re-released for DXP Platform.; PackageReference: R38; Publisher: Altium Limited
footprint HC49/4H_SMX (Quartz Crystal, SM; Body 13.4 (inc. leads) x 4.9 mm (LxW max))
pins: 1 OSC1, 2 OSC2